# Altium footprint library CONN_W2B_JST.PcbLib: 168 footprints (part 2 of 11)
Each footprint in its own frame and in the unit in brackets; x right, y up, seen from the top. Pads: shape width x height; smd on the part's side, far side on the other; paste and mask are expansions set on the pad; w line width, h text height; cw(c..) or ccw(c..) is an arc to the next point about the centre after c.
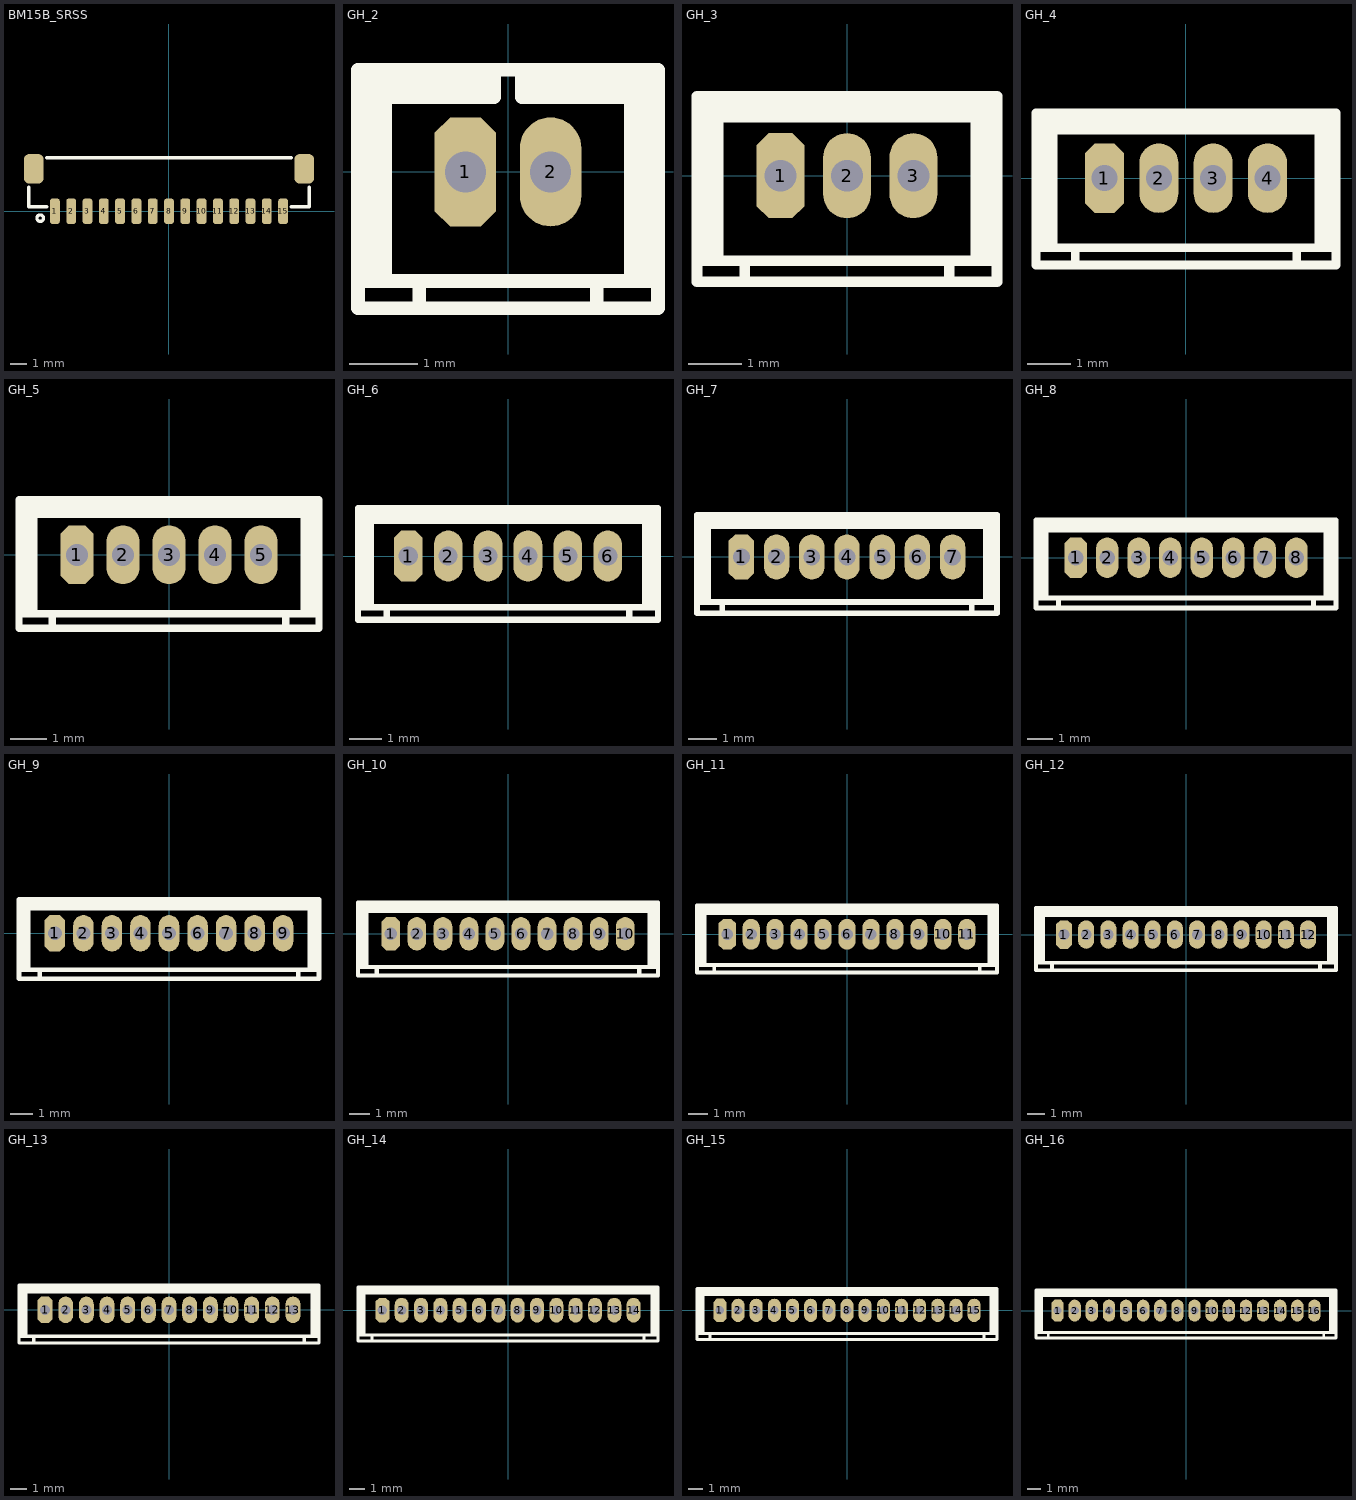
[diagram p1: the footprints below, top view; thin cyan lines are the x and y axes]

## BM15B_SRSS [mm] "SH, Pitch: 1mm, Top Entry, BMxxB-SRSS-TB"
height 6.3
pads (17):
  rrect50% 0.6x1.55 smd mask+0.075: 1(-7,0) 2(-6,0) 3(-5,0) 4(-4,0) 5(-3,0) 6(-2,0) 7(-1,0) 8(0,0) 9(1,0) 10(2,0) 11(3,0) 12(4,0) 13(5,0) 14(6,0) 15(7,0)
  rrect50% 1.2x1.8 smd mask+0.075: ""(-8.3,2.6) ""(8.3,2.6)
Top Overlay:
  circle w0.2: c-7.9,-0.425 r0.2
  lines w0.2: -8.6,1.475 -8.6,0.275 -7.5,0.275 ; -7.5,3.275 7.5,3.275 ; 7.5,0.275 8.6,0.275 8.6,1.475
3D body "BM15B-SRSS-TB.STEP": height 4.3, standoff 0, extent -8.5,-0.4 8.5,3.2

## GH_2 [mm] "JST GH Series, pitch: 1.25mm, 1.0A/50v"
pads (2):
  oct 0.9x1.6 hole 0.6: 1(-0.625,0)
  oval 0.9x1.6 hole 0.6: 2(0.625,0)
Top Overlay:
  region: 2.2,-1.6 2.2,1.5 0.2,1.5 0.2,1.1 1.8,1.1 1.8,-1.6
  region: -2.2,-1.6 -2.2,1.5 -0.2,1.5 -0.2,1.1 -1.8,1.1 -1.8,-1.6
  lines w0.2: -2.2,-1.6 2.2,-1.6 ; -1.8,-1.6 -1.8,1.1 -0.2,1.1 -0.2,1.5 ; -1.3,-2 -1.3,-1.6 ; 0.2,1.5 0.2,1.1 1.8,1.1 1.8,-1.6 ; 1.3,-2 1.3,-1.6 ; -2.2,-2 2.2,-2 2.2,1.5 -2.2,1.5 -2.2,-2
3D body "JST - GH - Thru (V) - 2Pin - 1.25mm.stp": height 4.22, standoff -2.26, extent -2.159,-1.93 2.159,1.397

## GH_3 [mm] "JST GH Series, pitch: 1.25mm, 1.0A/50v"
pads (3):
  oct 0.9x1.6 hole 0.6: 1(-1.25,0)
  oval 0.9x1.6 hole 0.6: 2(0,0) 3(1.25,0)
Top Overlay:
  region: 2.425,-1.6 2.825,-1.6 2.825,1.5 2.425,1.5
  region: -2.825,-1.6 -2.825,1.5 2.825,1.5 2.825,1.1 -2.425,1.1 -2.425,-1.6
  lines w0.2: -2.825,-1.6 2.825,-1.6 ; -2.425,-1.6 -2.425,1.1 2.825,1.1 ; -1.925,-2 -1.925,-1.6 ; 1.925,-2 1.925,-1.6 ; 2.425,-1.6 2.425,1.1 ; -2.825,-2 -2.825,1.5 2.825,1.5 2.825,-2 -2.825,-2
3D body "JST - GH - Thru (V) - 3Pin - 1.25mm.stp": height 4.22, standoff -2.26, extent -2.87,-1.93 2.87,1.397

## GH_4 [mm] "JST GH Series, pitch: 1.25mm, 1.0A/50v"
pads (4):
  oct 0.9x1.6 hole 0.6: 1(-1.875,0)
  oval 0.9x1.6 hole 0.6: 2(-0.625,0) 3(0.625,0) 4(1.875,0)
Top Overlay:
  region: -3.45,-1.6 -3.45,1.5 3.45,1.5 3.45,1.1 -3.05,1.1 -3.05,-1.6
  region: 3.05,-1.6 3.45,-1.6 3.45,1.5 3.05,1.5
  lines w0.2: -3.45,-1.6 3.45,-1.6 ; -3.05,-1.6 -3.05,1.1 3.45,1.1 ; -2.55,-2 -2.55,-1.6 ; 2.55,-2 2.55,-1.6 ; 3.05,-1.6 3.05,1.1 ; -3.45,-2 3.45,-2 3.45,1.5 -3.45,1.5 -3.45,-2
3D body "JST - GH - Thru (V) - 4Pin - 1.25mm.stp": height 4.22, standoff -2.26, extent -3.374,-1.93 3.374,1.397

## GH_5 [mm] "JST GH Series, pitch: 1.25mm, 1.0A/50v"
pads (5):
  oct 0.9x1.6 hole 0.6: 1(-2.5,0)
  oval 0.9x1.6 hole 0.6: 2(-1.25,0) 3(0,0) 4(1.25,0) 5(2.5,0)
Top Overlay:
  region: 3.675,-1.6 4.075,-1.6 4.075,1.5 3.675,1.5
  region: -4.075,-1.6 -4.075,1.5 4.075,1.5 4.075,1.1 -3.675,1.1 -3.675,-1.6
  lines w0.2: -4.075,-1.6 4.075,-1.6 ; -3.675,-1.6 -3.675,1.1 4.075,1.1 ; -3.175,-2 -3.175,-1.6 ; 3.175,-2 3.175,-1.6 ; 3.675,-1.6 3.675,1.1 ; -4.075,-2 -4.075,1.5 4.075,1.5 4.075,-2 -4.075,-2
3D body "JST - GH - Thru (V) - 5Pin - 1.25mm.stp": height 4.22, standoff -2.26, extent -3.998,-1.93 3.998,1.397

## GH_6 [mm] "JST GH Series, pitch: 1.25mm, 1.0A/50v"
pads (6):
  oct 0.9x1.6 hole 0.6: 1(-3.125,0)
  oval 0.9x1.6 hole 0.6: 2(-1.875,0) 3(-0.625,0) 4(0.625,0) 5(1.875,0) 6(3.125,0)
Top Overlay:
  region: 4.3,-1.6 4.7,-1.6 4.7,1.5 4.3,1.5
  region: -4.7,-1.6 -4.7,1.5 4.7,1.5 4.7,1.1 -4.3,1.1 -4.3,-1.6
  lines w0.2: -4.7,-1.6 4.7,-1.6 ; -4.3,-1.6 -4.3,1.1 4.7,1.1 ; -3.8,-2 -3.8,-1.6 ; 3.8,-2 3.8,-1.6 ; 4.3,-1.6 4.3,1.1 ; -4.7,-2 -4.7,1.5 4.7,1.5 4.7,-2 -4.7,-2
3D body "JST - GH - Thru (V) - 6Pin - 1.25mm.stp": height 4.22, standoff -2.26, extent -4.623,-1.93 4.623,1.397

## GH_7 [mm] "JST GH Series, pitch: 1.25mm, 1.0A/50v"
pads (7):
  oct 0.9x1.6 hole 0.6: 1(-3.75,0)
  oval 0.9x1.6 hole 0.6: 2(-2.5,0) 3(-1.25,0) 4(0,0) 5(1.25,0) 6(2.5,0) 7(3.75,0)
Top Overlay:
  region: -5.325,-1.6 -5.325,1.5 5.325,1.5 5.325,1.1 -4.925,1.1 -4.925,-1.6
  region: 4.925,-1.6 5.325,-1.6 5.325,1.5 4.925,1.5
  lines w0.2: -5.325,-1.6 5.325,-1.6 ; -4.925,-1.6 -4.925,1.1 5.325,1.1 ; -4.425,-2 -4.425,-1.6 ; 4.425,-2 4.425,-1.6 ; 4.925,-1.6 4.925,1.1 ; -5.325,-2 5.325,-2 5.325,1.5 -5.325,1.5 -5.325,-2
3D body "JST - GH - Thru (V) - 7Pin - 1.25mm.stp": height 4.22, standoff -2.26, extent -5.248,-1.93 5.248,1.397

## GH_8 [mm] "JST GH Series, pitch: 1.25mm, 1.0A/50v"
pads (8):
  oct 0.9x1.6 hole 0.6: 1(-4.375,0)
  oval 0.9x1.6 hole 0.6: 2(-3.125,0) 3(-1.875,0) 4(-0.625,0) 5(0.625,0) 6(1.875,0) 7(3.125,0) 8(4.375,0)
Top Overlay:
  region: -5.95,-1.6 -5.95,1.5 5.95,1.5 5.95,1.1 -5.55,1.1 -5.55,-1.6
  region: 5.55,-1.6 5.95,-1.6 5.95,1.5 5.55,1.5
  lines w0.2: -5.95,-1.6 5.95,-1.6 ; -5.55,-1.6 -5.55,1.1 5.95,1.1 ; -5.05,-2 -5.05,-1.6 ; 5.05,-2 5.05,-1.6 ; 5.55,-1.6 5.55,1.1 ; -5.95,-2 5.95,-2 5.95,1.5 -5.95,1.5 -5.95,-2
3D body "JST - GH - Thru (V) - 8Pin - 1.25mm.stp": height 4.22, standoff -2.26, extent -5.873,-1.93 5.873,1.397

## GH_9 [mm] "JST GH Series, pitch: 1.25mm, 1.0A/50v"
pads (9):
  oct 0.9x1.6 hole 0.6: 1(-5,0)
  oval 0.9x1.6 hole 0.6: 2(-3.75,0) 3(-2.5,0) 4(-1.25,0) 5(0,0) 6(1.25,0) 7(2.5,0) 8(3.75,0) 9(5,0)
Top Overlay:
  region: 6.175,-1.6 6.575,-1.6 6.575,1.5 6.175,1.5
  region: -6.575,-1.6 -6.575,1.5 6.575,1.5 6.575,1.1 -6.175,1.1 -6.175,-1.6
  lines w0.2: -6.575,-1.6 6.575,-1.6 ; -6.175,-1.6 -6.175,1.1 6.575,1.1 ; -5.675,-2 -5.675,-1.6 ; 5.675,-2 5.675,-1.6 ; 6.175,-1.6 6.175,1.1 ; -6.575,-2 -6.575,1.5 6.575,1.5 6.575,-2 -6.575,-2
3D body "JST - GH - Thru (V) - 9Pin - 1.25mm.stp": height 4.22, standoff -2.26, extent -6.498,-1.93 6.498,1.397

## GH_10 [mm] "JST GH Series, pitch: 1.25mm, 1.0A/50v"
pads (10):
  oct 0.9x1.6 hole 0.6: 1(-5.625,0)
  oval 0.9x1.6 hole 0.6: 2(-4.375,0) 3(-3.125,0) 4(-1.875,0) 5(-0.625,0) 6(0.625,0) 7(1.875,0) 8(3.125,0) 9(4.375,0) 10(5.625,0)
Top Overlay:
  region: 6.8,-1.6 7.2,-1.6 7.2,1.5 6.8,1.5
  region: -7.2,-1.6 -7.2,1.5 7.2,1.5 7.2,1.1 -6.8,1.1 -6.8,-1.6
  lines w0.2: -7.2,-1.6 7.2,-1.6 ; -6.8,-1.6 -6.8,1.1 7.2,1.1 ; -6.3,-2 -6.3,-1.6 ; 6.3,-2 6.3,-1.6 ; 6.8,-1.6 6.8,1.1 ; -7.2,-2 -7.2,1.5 7.2,1.5 7.2,-2 -7.2,-2
3D body "JST - GH - Thru (V) - 10Pin - 1.25mm.stp": height 4.22, standoff -2.26, extent -7.123,-1.93 7.123,1.397

## GH_11 [mm] "JST GH Series, pitch: 1.25mm, 1.0A/50v"
pads (11):
  oct 0.9x1.6 hole 0.6: 1(-6.25,0)
  oval 0.9x1.6 hole 0.6: 2(-5,0) 3(-3.75,0) 4(-2.5,0) 5(-1.25,0) 6(0,0) 7(1.25,0) 8(2.5,0) 9(3.75,0) 10(5,0) 11(6.25,0)
Top Overlay:
  region: -7.825,-1.6 -7.825,1.5 7.825,1.5 7.825,1.1 -7.425,1.1 -7.425,-1.6
  region: 7.425,-1.6 7.825,-1.6 7.825,1.5 7.425,1.5
  lines w0.2: -7.825,-1.6 7.825,-1.6 ; -7.425,-1.6 -7.425,1.1 7.825,1.1 ; -6.925,-2 -6.925,-1.6 ; 6.925,-2 6.925,-1.6 ; 7.425,-1.6 7.425,1.1 ; -7.825,-2 7.825,-2 7.825,1.5 -7.825,1.5 -7.825,-2
3D body "JST - GH - Thru (V) - 11Pin - 1.25mm.stp": height 4.22, standoff -2.26, extent -7.748,-1.93 7.748,1.397

## GH_12 [mm] "JST GH Series, pitch: 1.25mm, 1.0A/50v"
pads (12):
  oct 0.9x1.6 hole 0.6: 1(-6.875,0)
  oval 0.9x1.6 hole 0.6: 2(-5.625,0) 3(-4.375,0) 4(-3.125,0) 5(-1.875,0) 6(-0.625,0) 7(0.625,0) 8(1.875,0) 9(3.125,0) 10(4.375,0) 11(5.625,0) 12(6.875,0)
Top Overlay:
  region: -8.45,-1.6 -8.45,1.5 8.45,1.5 8.45,1.1 -8.05,1.1 -8.05,-1.6
  region: 8.05,-1.6 8.45,-1.6 8.45,1.5 8.05,1.5
  lines w0.2: -8.45,-1.6 8.45,-1.6 ; -8.05,-1.6 -8.05,1.1 8.45,1.1 ; -7.55,-2 -7.55,-1.6 ; 7.55,-2 7.55,-1.6 ; 8.05,-1.6 8.05,1.1 ; -8.45,-2 8.45,-2 8.45,1.5 -8.45,1.5 -8.45,-2
3D body "JST - GH - Thru (V) - 12Pin - 1.25mm.stp": height 4.22, standoff -2.26, extent -8.373,-1.93 8.373,1.397

## GH_13 [mm] "JST GH Series, pitch: 1.25mm, 1.0A/50v"
pads (13):
  oct 0.9x1.6 hole 0.6: 1(-7.5,0)
  oval 0.9x1.6 hole 0.6: 2(-6.25,0) 3(-5,0) 4(-3.75,0) 5(-2.5,0) 6(-1.25,0) 7(0,0) 8(1.25,0) 9(2.5,0) 10(3.75,0) 11(5,0) 12(6.25,0) 13(7.5,0)
Top Overlay:
  region: -9.075,-1.6 -9.075,1.5 9.075,1.5 9.075,1.1 -8.675,1.1 -8.675,-1.6
  region: 8.675,-1.6 9.075,-1.6 9.075,1.5 8.675,1.5
  lines w0.2: -9.075,-1.6 9.075,-1.6 ; -8.675,-1.6 -8.675,1.1 9.075,1.1 ; -8.175,-2 -8.175,-1.6 ; 8.175,-2 8.175,-1.6 ; 8.675,-1.6 8.675,1.1 ; -9.075,-2 9.075,-2 9.075,1.5 -9.075,1.5 -9.075,-2
3D body "JST - GH - Thru (V) - 13Pin - 1.25mm.stp": height 4.22, standoff -2.26, extent -8.998,-1.93 8.998,1.397

## GH_14 [mm] "JST GH Series, pitch: 1.25mm, 1.0A/50v"
pads (14):
  oct 0.9x1.6 hole 0.6: 1(-8.125,0)
  oval 0.9x1.6 hole 0.6: 2(-6.875,0) 3(-5.625,0) 4(-4.375,0) 5(-3.125,0) 6(-1.875,0) 7(-0.625,0) 8(0.625,0) 9(1.875,0) 10(3.125,0) 11(4.375,0) 12(5.625,0) 13(6.875,0) 14(8.125,0)
Top Overlay:
  region: -9.7,-1.6 -9.7,1.5 9.7,1.5 9.7,1.1 -9.3,1.1 -9.3,-1.6
  region: 9.3,-1.6 9.7,-1.6 9.7,1.5 9.3,1.5
  lines w0.2: -9.7,-1.6 9.7,-1.6 ; -9.3,-1.6 -9.3,1.1 9.7,1.1 ; -8.8,-2 -8.8,-1.6 ; 8.8,-2 8.8,-1.6 ; 9.3,-1.6 9.3,1.1 ; -9.7,-2 9.7,-2 9.7,1.5 -9.7,1.5 -9.7,-2
3D body "JST - GH - Thru (V) - 14Pin - 1.25mm.stp": height 4.22, standoff -2.26, extent -9.623,-1.93 9.623,1.397

## GH_15 [mm] "JST GH Series, pitch: 1.25mm, 1.0A/50v"
pads (15):
  oct 0.9x1.6 hole 0.6: 1(-8.75,0)
  oval 0.9x1.6 hole 0.6: 2(-7.5,0) 3(-6.25,0) 4(-5,0) 5(-3.75,0) 6(-2.5,0) 7(-1.25,0) 8(0,0) 9(1.25,0) 10(2.5,0) 11(3.75,0) 12(5,0) 13(6.25,0) 14(7.5,0) 15(8.75,0)
Top Overlay:
  region: -10.325,-1.6 -10.325,1.5 10.325,1.5 10.325,1.1 -9.925,1.1 -9.925,-1.6
  region: 9.925,-1.6 10.325,-1.6 10.325,1.5 9.925,1.5
  lines w0.2: -10.325,-1.6 10.325,-1.6 ; -9.925,-1.6 -9.925,1.1 10.325,1.1 ; -9.425,-2 -9.425,-1.6 ; 9.425,-2 9.425,-1.6 ; 9.925,-1.6 9.925,1.1 ; -10.325,-2 10.325,-2 10.325,1.5 -10.325,1.5 -10.325,-2
3D body "JST - GH - Thru (V) - 15Pin - 1.25mm.stp": height 4.22, standoff -2.26, extent -10.248,-1.93 10.248,1.397

## GH_16 [mm] "JST GH Series, pitch: 1.25mm, 1.0A/50v"
pads (16):
  oct 0.9x1.6 hole 0.6: 1(-9.375,0)
  oval 0.9x1.6 hole 0.6: 2(-8.125,0) 3(-6.875,0) 4(-5.625,0) 5(-4.375,0) 6(-3.125,0) 7(-1.875,0) 8(-0.625,0) 9(0.625,0) 10(1.875,0) 11(3.125,0) 12(4.375,0) 13(5.625,0) 14(6.875,0) 15(8.125,0) 16(9.375,0)
Top Overlay:
  region: -10.95,-1.6 -10.95,1.5 10.95,1.5 10.95,1.1 -10.55,1.1 -10.55,-1.6
  region: 10.55,-1.6 10.95,-1.6 10.95,1.5 10.55,1.5
  lines w0.2: -10.95,-1.6 10.95,-1.6 ; -10.55,-1.6 -10.55,1.1 10.95,1.1 ; -10.05,-2 -10.05,-1.6 ; 10.05,-2 10.05,-1.6 ; 10.55,-1.6 10.55,1.1 ; -10.95,-2 10.95,-2 10.95,1.5 -10.95,1.5 -10.95,-2
3D body "JST - GH - Thru (V) - 16Pin - 1.25mm.stp": height 4.22, standoff -2.26, extent -10.873,-1.93 10.873,1.397